# EAGLE library part ADP3367 (library IC - PMIC - Vreg - Linear)
+5V, Fixed, Adj. LDO V-reg SO-8 package ANALOG DEVICES
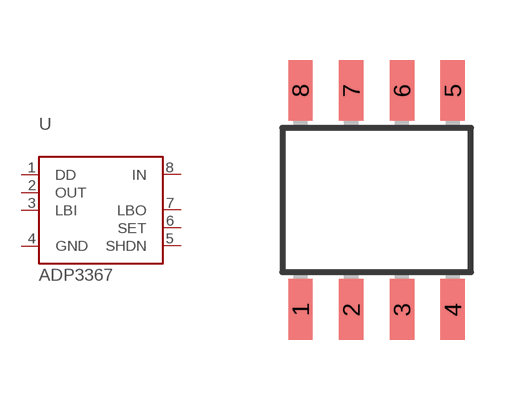
[diagram p0: symbol with the pads of SO-8; footprint SO-8]

Designator prefix U

## ADP3367  [SO-8]
1  DD  in
2  OUT  in
3  LBI  in
4  GND  pwr
5  SHDN  oc
6  SET  pas
7  LBO  pas
8  IN  pas

## Footprint SO-8 (pad centres in mm)
SMALL OUTLINE INTEGRATED CIRCUIT
smd 0.61 x 1.524: 1 -1.905,-2.743; 2 -0.635,-2.743; 3 0.635,-2.743; 4 1.905,-2.743; 5 1.905,2.743; 6 0.635,2.743; 7 -0.635,2.743; 8 -1.905,2.743